# Altium footprint library Indicator.PcbLib: 4 footprints
Each footprint in its own frame and in the unit in brackets; x right, y up, seen from the top. Pads: shape width x height; smd on the part's side, far side on the other; paste and mask are expansions set on the pad; w line width, h text height; cw(c..) or ccw(c..) is an arc to the next point about the centre after c.
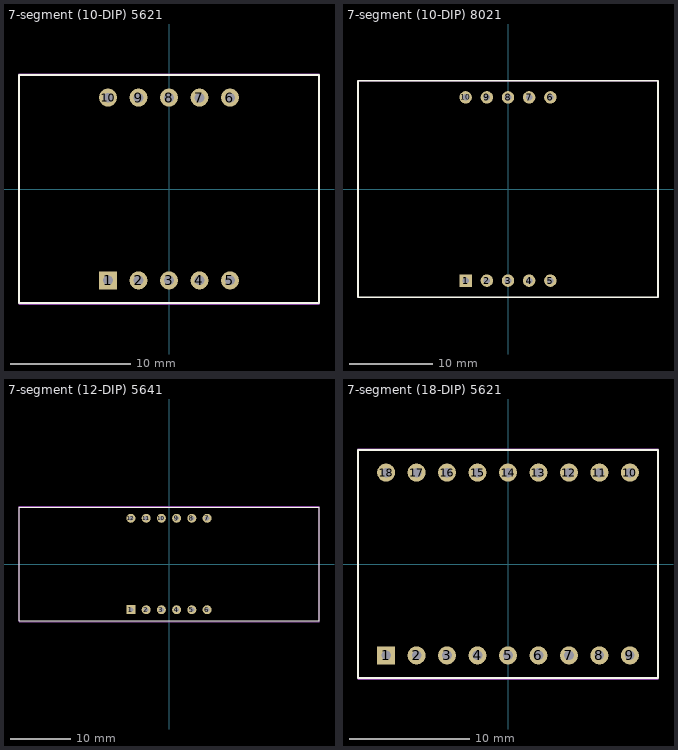
[diagram p0: the footprints below, top view; thin cyan lines are the x and y axes]

## 7-segment (10-DIP) 5621 [mm]
pads (10):
  rect 1.5x1.5 hole 0.8: 1(-5.08,-7.62)
  round 1.5 hole 0.8: 2(-2.54,-7.62) 3(0,-7.62) 4(2.54,-7.62) 5(5.08,-7.62) 6(5.08,7.62) 7(2.54,7.62) 8(0,7.62) 9(-2.54,7.62) 10(-5.08,7.62)
Top Overlay:
  lines w0.2: -12.5,-9.5 12.5,-9.5 12.5,9.5 -12.5,9.5 -12.5,-9.5
Border:
  lines w0.1: -12.5,-9.6 12.5,-9.6 12.5,9.6 -12.5,9.6 -12.5,-9.6
3D body "7_seg D5621B.stp": height 8, standoff -6.3, extent -12.5,-9.5 12.5,9.5

## 7-segment (10-DIP) 8021 [mm]
pads (10):
  rect 1.5x1.5 hole 0.8: 1(-5.08,-11)
  round 1.5 hole 0.8: 2(-2.54,-11) 3(0,-11) 4(2.54,-11) 5(5.08,-11) 6(5.08,11) 7(2.54,11) 8(0,11) 9(-2.54,11) 10(-5.08,11)
Top Overlay:
  lines w0.2: -18,-13 18,-13 18,13 -18,13 -18,-13
Border:
  lines w0.1: -18,-13 18,-13 18,13 -18,13 -18,-13
3D body "7_seg D8021B (DIP-10).stp": height 8, standoff -6.3, extent -17.9,-12.9 17.9,12.9

## 7-segment (12-DIP) 5641 [mm]
pads (12):
  rect 1.5x1.5 hole 0.8: 1(-6.35,-7.62)
  round 1.5 hole 0.8: 2(-3.81,-7.62) 3(-1.27,-7.62) 4(1.27,-7.62) 5(3.81,-7.62) 6(6.35,-7.62) 7(6.35,7.62) 8(3.81,7.62) 9(1.27,7.62) 10(-1.27,7.62) 11(-3.81,7.62) 12(-6.35,7.62)
Top Overlay:
  lines w0.2: -25,-9.5 -25,9.5 25,9.5 25,-9.5 -25,-9.5
Border:
  lines w0.1: -25,-9.6 -25,9.6 25,9.6 25,-9.6 -25,-9.6
3D body "7_seg D5641B.stp": height 8, standoff -6.3, extent -25.15,-9.5 25.15,9.5

## 7-segment (18-DIP) 5621 [mm]
pads (18):
  rect 1.5x1.5 hole 0.8: 1(-10.16,-7.62)
  round 1.5 hole 0.8: 2(-7.62,-7.62) 3(-5.08,-7.62) 4(-2.54,-7.62) 5(0,-7.62) 6(2.54,-7.62) 7(5.08,-7.62) 8(7.62,-7.62) 9(10.16,-7.62) 10(10.16,7.62) 11(7.62,7.62) 12(5.08,7.62) 13(2.54,7.62) 14(0,7.62) 15(-2.54,7.62) 16(-5.08,7.62) 17(-7.62,7.62) 18(-10.16,7.62)
Top Overlay:
  lines w0.2: -12.5,-9.5 -12.5,9.5 12.5,9.5 12.5,-9.5 -12.5,-9.5
Border:
  lines w0.1: -12.5,-9.6 -12.5,9.6 12.5,9.6 12.5,-9.6 -12.5,-9.6
3D body "7_seg D5621A-B.stp": height 8, standoff -6.3, extent -12.5,-9.5 12.5,9.5